# Altium footprint library Switch_and_button.PcbLib: 4 footprints
Each footprint in its own frame and in the unit in brackets; x right, y up, seen from the top. Pads: shape width x height; smd on the part's side, far side on the other; paste and mask are expansions set on the pad; w line width, h text height; cw(c..) or ccw(c..) is an arc to the next point about the centre after c.
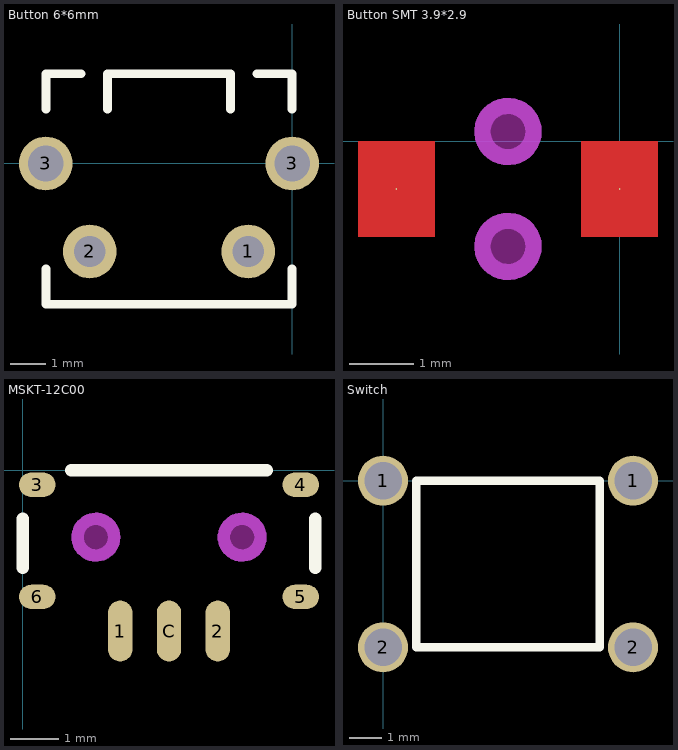
[diagram p0: the footprints below, top view; thin cyan lines are the x and y axes]

## Button 6*6mm [mil] "卧式6*6mm"
pads (4):
  round 60 hole 35: 1(-49.21,-98.43) 2(-226.38,-98.43)
  round 60 hole 40: 3(-275.59,0) 3(0,0)
Top Overlay:
  lines w10: -275.59,-118.11 -275.59,-157.48 0,-157.48 0,-118.11 ; -275.59,61.02 -275.59,100.39 -236.22,100.39 ; -206.69,61.02 -206.69,100.39 -137.8,100.39 -68.9,100.39 -68.9,61.02 ; -39.37,100.39 0,100.39 0,61.02

## Button SMT 3.9*2.9 [mil] "卧式贴片3.9mm*2.9mm"
pads (2):
  round 1 smd: 1(0,-29.53) 2(-137.8,-29.53)
Top Layer:
  region: -161.42,-59.06 -161.42,0 -114.17,0 -114.17,-59.06
  region: -23.62,-59.06 23.62,-59.06 23.62,0 -23.62,0
Keep-Out Layer:
  board cut-out: -68.9,-7.87 -71.64,-7.87 -76.7,-5.78 -80.58,-1.9 -82.68,3.16 -82.68,5.91 -82.68,8.65 -80.58,13.71 -76.7,17.59 -71.64,19.69 -68.9,19.69 -66.16,19.69 -61.09,17.59 -57.22,13.71 -55.12,8.65 -55.12,5.91 -55.12,3.16 -57.22,-1.9 -61.09,-5.78 -66.16,-7.87
  board cut-out: -68.9,-78.74 -71.64,-78.74 -76.7,-76.64 -80.58,-72.77 -82.68,-67.7 -82.68,-64.96 -82.68,-62.22 -80.58,-57.16 -76.7,-53.28 -71.64,-51.18 -68.9,-51.18 -66.16,-51.18 -61.09,-53.28 -57.22,-57.16 -55.12,-62.22 -55.12,-64.96 -55.12,-67.7 -57.22,-72.77 -61.09,-76.64 -66.16,-78.74
Keep-Out Layer:
  circle w10: c-68.9,-64.96 r15.75
  circle w10: c-68.9,5.91 r15.75
Mechanical 1:
  circle w10: c-68.9,-64.96 r15.75
  circle w10: c-68.9,5.91 r15.75

## MSKT-12C00 [mm]
pads (7):
  oval 0.5x1.25 smd: 1(2,-3.3) 2(4,-3.3) C(3,-3.3)
  oval 0.75x0.5 smd: 3(0.3,-0.3) 4(5.7,-0.3) 5(5.7,-2.6) 6(0.3,-2.6)
Top Overlay:
  lines w0.254: 0,-2 0,-1 ; 1,0 5,0 ; 6,-2 6,-1
Keep-Out Layer:
  board cut-out: 4.125,-1.375 4.125,-1.45 4.182,-1.587 4.288,-1.693 4.425,-1.75 4.5,-1.75 4.575,-1.75 4.712,-1.693 4.818,-1.587 4.875,-1.45 4.875,-1.375 4.875,-1.3 4.818,-1.163 4.712,-1.057 4.575,-1 4.5,-1 4.425,-1 4.288,-1.057 4.182,-1.163 4.125,-1.3
  board cut-out: 1.125,-1.375 1.125,-1.45 1.182,-1.587 1.288,-1.693 1.425,-1.75 1.5,-1.75 1.575,-1.75 1.712,-1.693 1.818,-1.587 1.875,-1.45 1.875,-1.375 1.875,-1.3 1.818,-1.163 1.712,-1.057 1.575,-1 1.5,-1 1.425,-1 1.288,-1.057 1.182,-1.163 1.125,-1.3
Keep-Out Layer:
  circle w0.254: c4.5,-1.375 r0.375
  circle w0.254: c1.5,-1.375 r0.375
Mechanical 1:
  circle w0.254: c4.5,-1.375 r0.375
  circle w0.254: c1.5,-1.375 r0.375

## Switch [mil]
pads (4):
  round 60 hole 45: 1(0,0) 1(300,0) 2(0,-200) 2(300,-200)
Top Overlay:
  lines w10: 40,-200 260,-200 260,0 40,0 40,-200